# EAGLE library part AS5306 (library ams)
Linear Incremental Position Sensor 160-step with Linear analog and ABI output
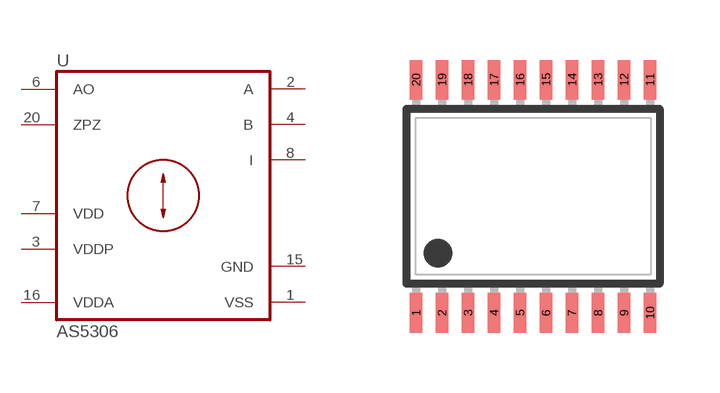
[diagram p3: symbol with the pads of TSSOP20; footprint TSSOP20]

Designator prefix U

## AS5306  [TSSOP20]
1  VSS  pwr
2  A  out
3  VDDP  pwr
4  B  out
6  AO  out
7  VDD  pwr
8  I  out
15  GND  pwr
16  VDDA  pwr
20  ZPZ  out

## Footprint TSSOP20 (pad centres in mm)
Thin Shrink Small Outline Plastic 20
smd 0.305 x 0.991: 1 -2.925,-2.918; 2 -2.275,-2.918; 3 -1.625,-2.918; 4 -0.975,-2.918; 5 -0.325,-2.918; 6 0.325,-2.918; 7 0.975,-2.918; 8 1.625,-2.918; 9 2.275,-2.918; 10 2.925,-2.918; 11 2.925,2.918; 12 2.275,2.918; 13 1.625,2.918; 14 0.975,2.918; 15 0.325,2.918; 16 -0.325,2.918; 17 -0.975,2.918; 18 -1.625,2.918; 19 -2.275,2.918; 20 -2.925,2.918